# EAGLE library part WAVECOM_Q268X (library laforge)
Wavecom Q2686/Q2687 GSM/GPRS Modem
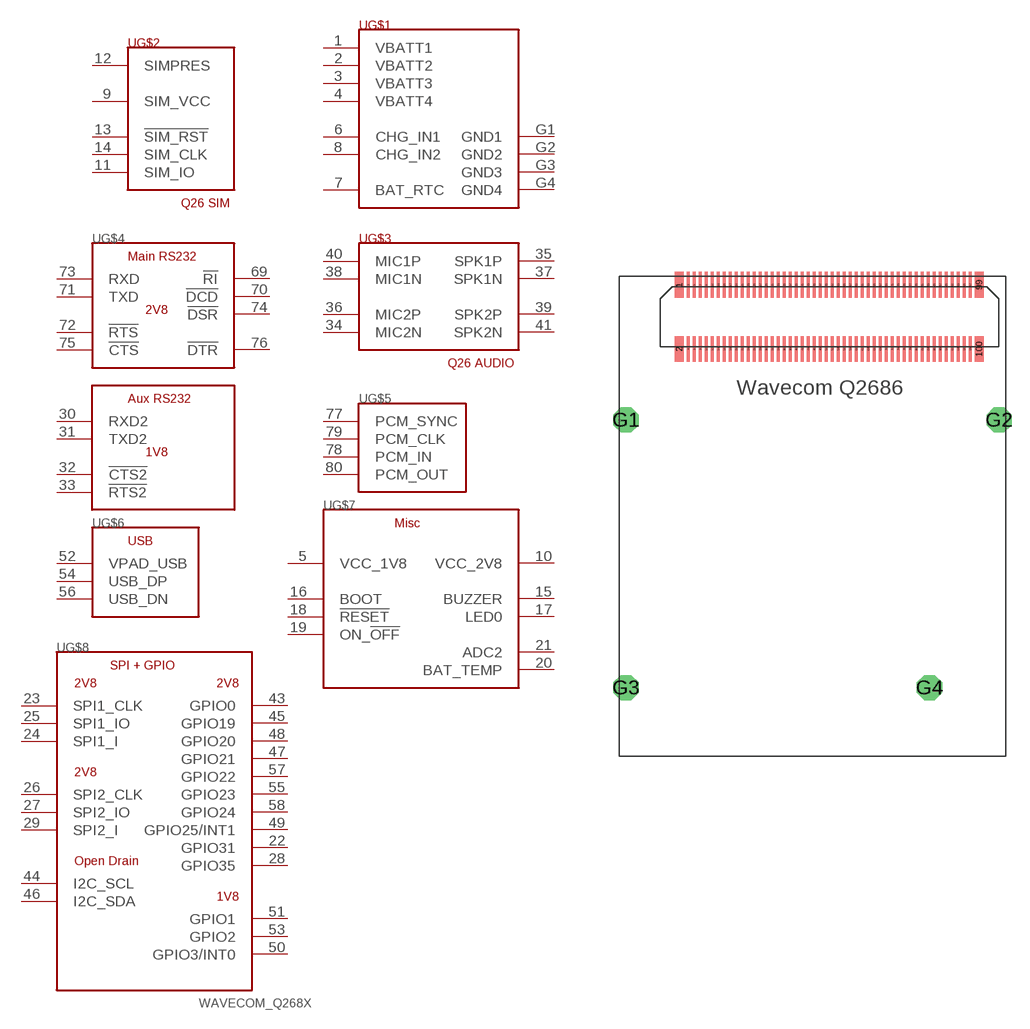
[diagram p23: symbol with the pads of WAVECOM_Q26; footprint WAVECOM_Q26]

Designator prefix -; gates G$1=WAVECOM_Q268X_PS G$2=WAVECOM_Q268X_SIM G$3=WAVECOM_Q268X_AUDIO G$4=WAVECOM_Q268X_RS232 G$5=WAVECOM_Q268X_PCM G$6=WAVECOM_Q268X_USB G$7=WAVECOM_Q268X_MISC G$8=WAVECOM_Q268X_SPI

## WAVECOM_Q268X  [WAVECOM_Q26]
1  G$1:VBATT1  pwr
2  G$1:VBATT2  pwr
3  G$1:VBATT3  pwr
4  G$1:VBATT4  pwr
5  G$7:VCC_1V8  pwr
6  G$1:CHG_IN1  pwr
7  G$1:BAT_RTC  pwr
8  G$1:CHG_IN2  pwr
9  G$2:SIM_VCC  pwr
10  G$7:VCC_2V8  pwr
11  G$2:SIM_IO
12  G$2:SIMPRES  in
13  G$2:!SIM_RST  out
14  G$2:SIM_CLK  out
15  G$7:BUZZER  out
16  G$7:BOOT  in
17  G$7:LED0  out
18  G$7:!RESET  in
19  G$7:ON_!OFF  in
20  G$7:BAT_TEMP  in
21  G$7:ADC2  in
22  G$8:GPIO31
23  G$8:SPI1_CLK  out
24  G$8:SPI1_I  in
25  G$8:SPI1_IO
26  G$8:SPI2_CLK  out
27  G$8:SPI2_IO
28  G$8:GPIO35
29  G$8:SPI2_I  in
30  G$4:RXD2  in
31  G$4:TXD2  out
32  G$4:!CTS2  out
33  G$4:!RTS2  in
34  G$3:MIC2N
35  G$3:SPK1P  out
36  G$3:MIC2P  pas
37  G$3:SPK1N  out
38  G$3:MIC1N  pas
39  G$3:SPK2P  out
40  G$3:MIC1P  pas
41  G$3:SPK2N  out
43  G$8:GPIO0
44  G$8:I2C_SCL
45  G$8:GPIO19
46  G$8:I2C_SDA
47  G$8:GPIO21
48  G$8:GPIO20
49  G$8:GPIO25/INT1
50  G$8:GPIO3/INT0
51  G$8:GPIO1
52  G$6:VPAD_USB  pwr
53  G$8:GPIO2
54  G$6:USB_DP
55  G$8:GPIO23
56  G$6:USB_DN
57  G$8:GPIO22
58  G$8:GPIO24
69  G$4:!RI  out
70  G$4:!DCD  out
71  G$4:TXD  out
72  G$4:!RTS  in
73  G$4:RXD  in
74  G$4:!DSR  out
75  G$4:!CTS  out
76  G$4:!DTR  in
77  G$5:PCM_SYNC  out
78  G$5:PCM_IN  in
79  G$5:PCM_CLK  out
80  G$5:PCM_OUT  out
G1  G$1:GND1  pas
G2  G$1:GND2
G3  G$1:GND3
G4  G$1:GND4

## Footprint WAVECOM_Q26 (pad centres in mm)
smd 0.75 x 2.15: 1 -12.5,2.675; 2 -12.5,-2.675; 99 12.5,2.675; 100 12.5,-2.675
smd 0.25 x 2.15: 3 -11.75,2.675; 4 -11.75,-2.675; 5 -11.25,2.675; 6 -11.25,-2.675; 7 -10.75,2.675; 8 -10.75,-2.675; 9 -10.25,2.675; 10 -10.25,-2.675; 11 -9.75,2.675; 12 -9.75,-2.675; 13 -9.25,2.675; 14 -9.25,-2.675; 15 -8.75,2.675; 16 -8.75,-2.675; 17 -8.25,2.675; 18 -8.25,-2.675; 19 -7.75,2.675; 20 -7.75,-2.675; 21 -7.25,2.675; 22 -7.25,-2.675; 23 -6.75,2.675; 24 -6.75,-2.675; 25 -6.25,2.675; 26 -6.25,-2.675; 27 -5.75,2.675; 28 -5.75,-2.675; 29 -5.25,2.675; 30 -5.25,-2.675; 31 -4.75,2.675; 32 -4.75,-2.675; 33 -4.25,2.675; 34 -4.25,-2.675; 35 -3.75,2.675; 36 -3.75,-2.675; 37 -3.25,2.675; 38 -3.25,-2.675; 39 -2.75,2.675; 40 -2.75,-2.675; 41 -2.25,2.675; 42 -2.25,-2.675; 43 -1.75,2.675; 44 -1.75,-2.675; 45 -1.25,2.675; 46 -1.25,-2.675; 47 -0.75,2.675; 48 -0.75,-2.675; 49 -0.25,2.675; 50 -0.25,-2.675; 51 0.25,2.675; 52 0.25,-2.675; 53 0.75,2.675; 54 0.75,-2.675; 55 1.25,2.675; 56 1.25,-2.675; 57 1.75,2.675; 58 1.75,-2.675; 59 2.25,2.675; 60 2.25,-2.675; 61 2.75,2.675; 62 2.75,-2.675; 63 3.25,2.675; 64 3.25,-2.675; 65 3.75,2.675; 66 3.75,-2.675; 67 4.25,2.675; 68 4.25,-2.675; 69 4.75,2.675; 70 4.75,-2.675; 71 5.25,2.675; 72 5.25,-2.675; 73 5.75,2.675; 74 5.75,-2.675; 75 6.25,2.675; 76 6.25,-2.675; 77 6.75,2.675; 78 6.75,-2.675; 79 7.25,2.675; 80 7.25,-2.675; 81 7.75,2.675; 82 7.75,-2.675; 83 8.25,2.675; 84 8.25,-2.675; 85 8.75,2.675; 86 8.75,-2.675; 87 9.25,2.675; 88 9.25,-2.675; 89 9.75,2.675; 90 9.75,-2.675; 91 10.25,2.675; 92 10.25,-2.675; 93 10.75,2.675; 94 10.75,-2.675; 95 11.25,2.675; 96 11.25,-2.675; 97 11.75,2.675; 98 11.75,-2.675
drill 1.4 octagon: G1 -16.95,-8.58; G2 14.15,-8.58; G3 -16.95,-30.9; G4 8.35,-30.9